# Altium schematic symbol library AD8319ACPZ-R7.SchLib: 1 symbol
Pins are listed as number, name and electrical type; pins without a type are passive.

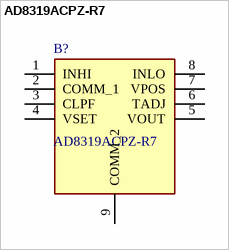
[diagram p0: symbol AD8319ACPZ-R7]

## AD8319ACPZ-R7
designator B?
ANALOG DEVICES - AD8319ACPZ-R7 - Logarithmic Amplifier, 1 Amplifier, 45 dB, 20 ns, LFCSP, 8 Pins; Geometry.Height: 0.8mm; Mouser Part Number: 584-AD8319ACPZ-R7; Mouser Price/Stock: https://www.mouser.co.uk/ProductDetail/Analog-Devices/AD8319ACPZ-R7?qs=%2FtpEQrCGXCzPBHijRykptA%3D%3D; Manufacturer_Name: Analog Devices; Manufacturer_Part_Number: AD8319ACPZ-R7; Datasheet Link: https://www.analog.com/media/en/technical-documentation/data-sheets/AD8319.pdf
footprint SON50P200X300X80-9N-D
pins: 1 INHI, 2 COMM_1, 3 CLPF, 4 VSET, 5 VOUT, 6 TADJ, 7 VPOS (power), 8 INLO, 9 COMM_2